# Altium schematic symbol library SII Semiconductor.SchLib: 1 symbol
Pins are listed as number, name and electrical type; pins without a type are passive.

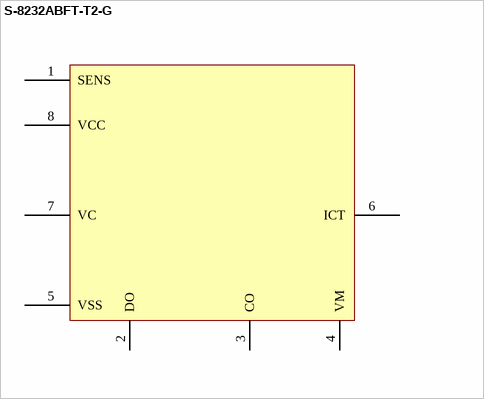
[diagram p0: symbol S-8232ABFT-T2-G]

## S-8232ABFT-T2-G
designator U?, comment S-8232A
pins: 1 SENS, 2 DO, 3 CO, 4 VM, 5 VSS, 6 ICT, 7 VC, 8 VCC